# Altium footprint library connectors.PcbLib: 3 footprints
Each footprint in its own frame and in the unit in brackets; x right, y up, seen from the top. Pads: shape width x height; smd on the part's side, far side on the other; paste and mask are expansions set on the pad; w line width, h text height; cw(c..) or ccw(c..) is an arc to the next point about the centre after c.
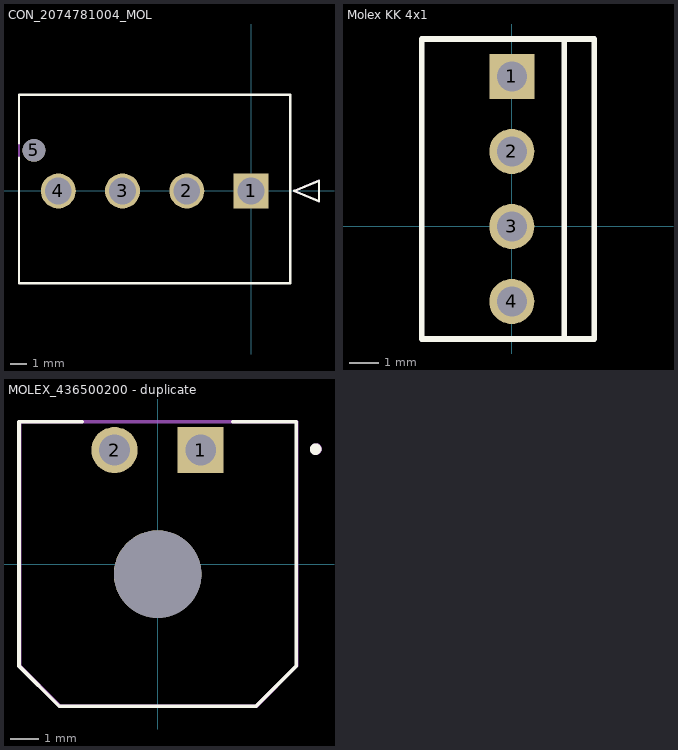
[diagram p0: the footprints below, top view; thin cyan lines are the x and y axes]

## CON_2074781004_MOL [mm] "Molex 1x4 11A connector"
pads (5):
  rect 2.158x2.158 hole 1.651 mask+0.076: 1(0,0)
  round 2.158 hole 1.651 mask+0.076: 2(-3.96,0) 3(-7.92,0) 4(-11.88,0)
  round 1.4 hole 1.397 unplated mask+0.076: 5(-13.38,2.5)
Top Overlay:
  lines w0.152: -14.3,2.059 -14.3,-5.68 2.41,-5.68 2.41,5.92 -14.3,5.92 -14.3,2.941 ; 2.664,0 4.188,0.635 4.188,-0.635 2.664,0
Mechanical 13:
  lines w0.127: -14.3,-5.68 2.41,-5.68 2.41,5.92 -14.3,5.92 -14.3,-5.68 ; 2.664,0 4.188,0.635 4.188,-0.635 2.664,0
3D body: height 0.25, standoff 0, extent 0,0 0.254,0.254
3D body "2074781004.stp": height 14.18, standoff -3.46, extent -14.325,-5.672 2.388,5.926

## Molex KK 4x1 [mil]
pads (4):
  rect 60x60 hole 40: 1(0,200)
  round 60 hole 40: 2(0,100) 3(0,0) 4(0,-100)
Top Overlay:
  lines w7.87: 70,-150 70,250 ; -120,-150 -120,-120 -120,250 110,250 110,-150 -120,-150
3D body "User Library-molex kk 0_1in latching 4 way vertical header.step": height 457.5, standoff -142.5, extent -120,-150 110,250

## MOLEX_436500200 - duplicate [mm]
pads (3):
  rect 1.605x1.605 hole 1.07: 1(1.5,3.97)
  round 1.605 hole 1.07: 2(-1.5,3.97)
  round 3.05 hole 3.05 unplated: ""(0,-0.35)
Top Overlay:
  circle w0.2: c5.5,4 r0.1
  lines w0.127: -2.62,4.95 -4.825,4.95 -4.825,-3.55 -3.425,-4.95 3.425,-4.95 4.825,-3.55 4.825,4.95 2.62,4.95
Mechanical 1:
  circle w0.2: c5.519,4.007 r0.1
  lines w0.127: -4.806,-3.543 -4.806,4.957 4.844,4.957 4.844,-3.543 3.444,-4.943 -3.406,-4.943 -4.806,-3.543
3D body "436500200.stp": height 5.58, standoff -3.33, extent -4.825,-4.95 4.825,4.95